# Altium schematic symbol library ESP32C6-Xbee.SCHLIB: 16 symbols
Pins are listed as number, name and electrical type; pins without a type are passive.

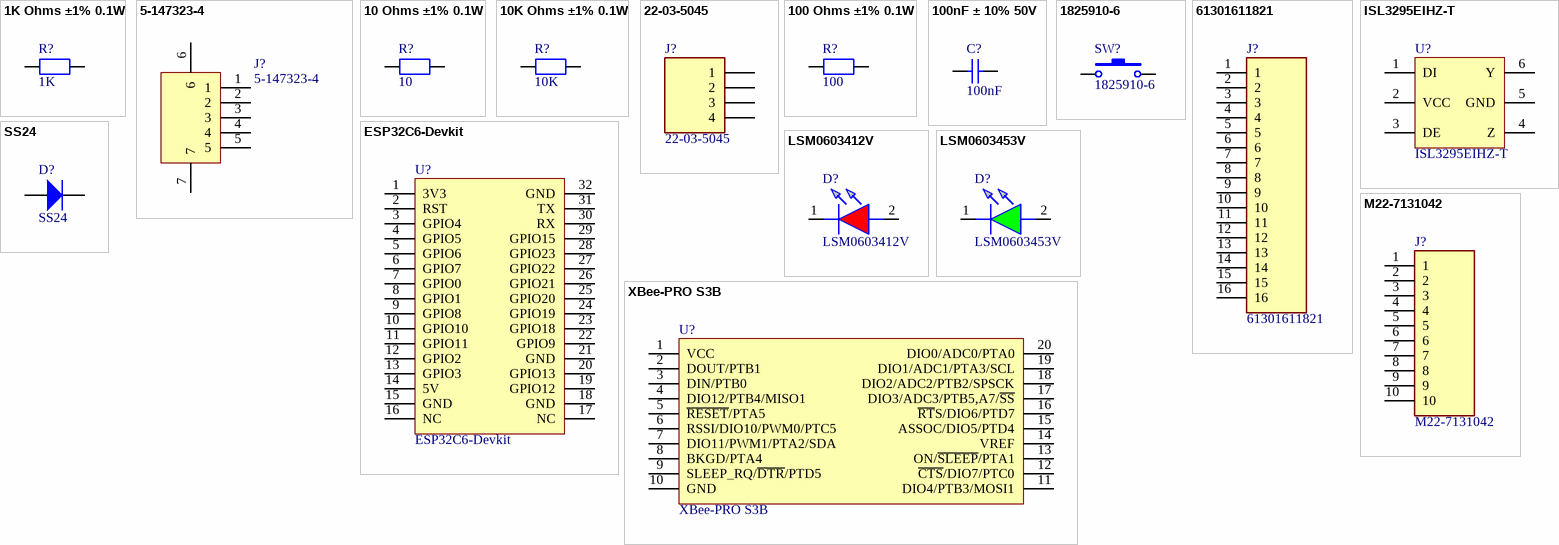
[diagram p0: symbols 1K Ohms ±1% 0.1W to XBee-PRO S3B]

## 1K Ohms ±1% 0.1W
designator R?, comment 1K
1 kOhms ±1% 0.1W, 1/10W Chip Resistor 0603 (1608 Metric) Moisture Resistant Thick Film; Manufacturer: Yageo; Manufacturer Part Number: RC0603FR-071KL; Value: 1K; Supplier: Digi-key; Supplier Part Number: 311-1.00KHRTR-ND; Price: 0.1
footprint R0603 (Footprint not found)
pins: 1, 2

## 5-147323-4
designator J?
Connector Header Surface Mount, Right Angle 5 position 0.100" (2.54mm); Manufacturer: TE Connectivity; Supplier Part Number: A120814TR-ND; Supplier: Digi-key; Manufacturer Part Number: 5-147323-4; Price: 6.3; Value: 5-147323-4
footprint 5-147323-4
pins: 1, 2, 3, 4, 5, 6, 7

## 10 Ohms ±1% 0.1W
designator R?, comment 10
10 Ohms ±1% 0.1W, 1/10W Chip Resistor 0603 (1608 Metric) Moisture Resistant Thick Film; Manufacturer: Yageo; Manufacturer Part Number: RC0603FR-0710RL; Value: 10; Supplier: Diogi-key; Supplier Part Number: 311-10.0HRTR-ND; Price: 0.1
footprint R0603 (Footprint not found)
pins: 1, 2

## 10K Ohms ±1% 0.1W
designator R?, comment 10K
10 kOhms ±1% 0.1W, 1/10W Chip Resistor 0603 (1608 Metric) Moisture Resistant Thick Film; Manufacturer: Yageo; Manufacturer Part Number: RC0603FR-0710KL; Value: 10K; Supplier: Digi-key; Supplier Part Number: 311-10.0KHRTR-ND; Price: 0.1
footprint R0603 (Footprint not found)
pins: 1, 2

## 22-03-5045
designator J?
Headers & Wire Housings 2.5 VERT HDR SPOX 4P shrouded; Manufacturer: Molex; Value: 4P con; Manufacturer Part Number: 22-03-5045; Supplier: Mouser; Supplier Part Number: 538-22-03-5045; Price: 22-03-5045
footprint MOLEX_22-03-5045
pins: 1, 2, 3, 4

## 100 Ohms ±1% 0.1W
designator R?, comment 100
100 Ohms ±1% 0.1W, 1/10W Chip Resistor 0603 (1608 Metric) Moisture Resistant Thick Film; Manufacturer: Yageo; Manufacturer Part Number: RC0603FR-07100RL; Value: 100; Supplier: Digi-key; Supplier Part Number: 311-100HRTR-ND; Price: 0.1
footprint R0603 (Footprint not found)
pins: 1, 2

## 100nF ± 10% 50V
designator C?, comment 100nF
0.1 µF ±10% 50V Ceramic Capacitor X7R 0603 (1608 Metric); Manufacturer: Yageo; Manufacturer Part Number: CS0603KRX7R9BB104; Value: 100nF; Supplier: Digi-key; Supplier Part Number: 311-3568-2-ND; Price: 0.14
footprint C0402
footprint C0603 (CAPACITOR SMD 0603)
pins: 1, 2

## 1825910-6
designator SW?
Tactile Switch SPST-NO Top Actuated Through Hole; Manufacturer: TE Connectivity; Value: 1825910-6; Manufacturer Part Number: 1825910-6; Price: 0.13; Supplier: Digi-key; Supplier Part Number: 450-1650-ND
footprint SW_1825910-6-4
pins: 1, 2

## 61301611821
designator J?
16 Position Header Connector 0.100" (2.54mm) Through Hole Gold; Manufacturer: Wurth Elektronik; Geometry.Height: 8.65mm; Value: 1Row 16Pin; Supplier Part Number: 61301611821-ND; Supplier: Digi-key; Manufacturer Part Number: 61301611821; Price: 0.68
footprint 61301611821
pins: 1, 2, 3, 4, 5, 6, 7, 8, 9, 10, 11, 12, 13, 14, 15, 16

## ESP32C6-Devkit
designator U?
ESP32-C6-MINI-1 Transceiver; Bluetooth® 5 2.4GHz Evaluation Board; Manufacturer: Espressif Systems; Manufacturer Part Number: ESP32-C6-DevKitM-1-N4; Value: No FIT; Supplier Part Number: 1965-ESP32-C6-DEVKITM-1-N4-ND; Supplier: Digi-key; Price: 8
footprint ESP32-C6-Devkit (Footprint not found)
pins: 1 3V3, 2 RST, 3 GPIO4, 4 GPIO5, 5 GPIO6, 6 GPIO7, 7 GPIO0, 8 GPIO1, 9 GPIO8, 10 GPIO10, 11 GPIO11, 12 GPIO2, 13 GPIO3, 14 5V, 15 GND, 16 NC, 17 NC, 18 GND, 19 GPIO12, 20 GPIO13, 21 GND, 22 GPIO9, 23 GPIO18, 24 GPIO19, 25 GPIO20, 26 GPIO21, 27 GPIO22, 28 GPIO23, 29 GPIO15, 30 RX, 31 TX, 32 GND

## ISL3295EIHZ-T
designator U?
1/0 Driver RS422, RS485 6-SOT; Manufacturer: Renesas Electronics America Inc; Manufacturer Part Number: ISL3295EIHZ-T; Supplier: Digi-key; Supplier Part Number: ISL3295EIHZ-TTR-ND; Price: 1.67; Value: ISL3295EIHZ-T
footprint SOT23-6
pins: 1 DI, 2 VCC, 3 DE, 4 Z, 5 GND, 6 Y

## LSM0603412V
designator D?
Red 635nm LED Indication - Discrete 2V 0603 (1608 Metric); Manufacturer: Visual Communications Company; Supplier Part Number: LSM0603412VTR-ND; Supplier: Digi-key; Manufacturer Part Number: LSM0603412V; Value: LSM0603412V; Price: 0.4
footprint LSM0603412V
pins: 1 K, 2 A

## LSM0603453V
designator D?
Standard LEDs - SMD SMD 0603 3V 1000mcd GREEN; Manufacturer: Visual Communications Company; Supplier Part Number: LSM0603453VTR-ND; Supplier: Digi-key; Manufacturer Part Number: LSM0603453V; Price: 0.4; Value: LSM0603453V
footprint LEDC1608X55N
pins: 1 K, 2 A

## M22-7131042
designator J?
2.00mm (0.079") Pitch SIL Vertical 2.6mm Throughboard Socket Assembly, selective gold + tin, 10 contacts; Manufacturer: Harwin; Geometry.Height: 4.4mm; Supplier Part Number: 952-1354-5-ND; Supplier: Digi-key; Manufacturer Part Number: M22-7131042; Price: 1.9; Value: M22-7131042
footprint M22-7131042
pins: 1, 2, 3, 4, 5, 6, 7, 8, 9, 10

## SS24
designator D?
Schottky Diodes & Rectifiers 2A, 40V, Schottky Rectifier; Manufacturer: Taiwan Semiconductor; Supplier Part Number: SS24FSTR-ND; Supplier: Digi-key; Manufacturer Part Number: SS24; Price: 0.37; Value: SS24
footprint DO-214AA
footprint DB24312
footprint DO-214AB
footprint DO-214AC
footprint DO-221AC
footprint MBR0580
footprint MICROSMP
footprint SMA, DO-214AC
footprint SOD-123
footprint SOD-323F
footprint TO-269AA
footprint SOD-128
pins: 1, 2

## XBee-PRO S3B
designator U?
General ISM < 1GHz Transceiver Module 920MHz Antenna Not Included, RP-SMA Through Hole; Manufacturer: DIGI; Manufacturer Part Number: XBP9B-XCST-022; Value: No FIT; Supplier Part Number: 602-1353-ND; Supplier: Digi-key; Price: 58.5
footprint XBEE(MMS-110-02-L-SV-K-TR)
pins: 1 VCC, 2 DOUT/PTB1, 3 DIN/PTB0, 4 DIO12/PTB4/MISO1, 5 ~{RESET}/PTA5, 6 RSSI/DIO10/PWM0/PTC5, 7 DIO11/PWM1/PTA2/SDA, 8 BKGD/PTA4, 9 SLEEP_RQ/~{DTR}/PTD5, 10 GND, 11 DIO4/PTB3/MOSI1, 12 ~{CTS}/DIO7/PTC0, 13 ON/~{SLEEP}/PTA1, 14 VREF, 15 ASSOC/DIO5/PTD4, 16 ~{RT}S/DIO6/PTD7, 17 DIO3/ADC3/PTB5,A7/~{SS}, 18 DIO2/ADC2/PTB2/SPSCK, 19 DIO1/ADC1/PTA3/SCL, 20 DIO0/ADC0/PTA0